# Altium footprint library LM7805.PcbLib: 1 footprints
Each footprint in its own frame and in the unit in brackets; x right, y up, seen from the top. Pads: shape width x height; smd on the part's side, far side on the other; paste and mask are expansions set on the pad; w line width, h text height; cw(c..) or ccw(c..) is an arc to the next point about the centre after c.
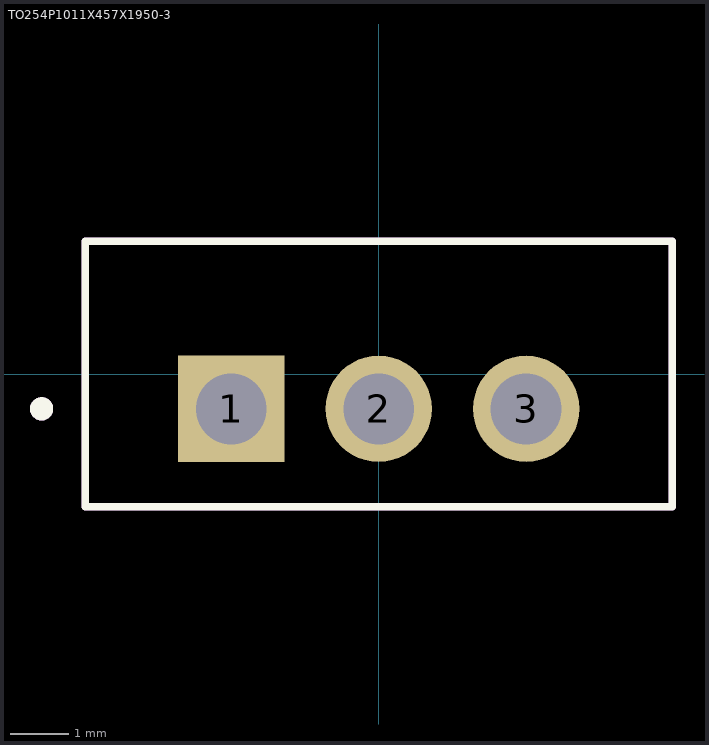
[diagram p0: the footprint, top view; thin cyan lines are the x and y axes]

## TO254P1011X457X1950-3 [mm]
pads (3):
  rect 1.83x1.83 / inner round 1.83 / far side rect 1.83x1.83 hole 1.22 mask+0.102: 1(-2.54,-0.6)
  round 1.83 hole 1.22 mask+0.102: 2(0,-0.6) 3(2.54,-0.6)
Top Overlay:
  circle w0.2: c-5.805,-0.6 r0.1
  lines w0.127: -5.055,-2.285 5.055,-2.285 5.055,2.285 -5.055,2.285 -5.055,-2.285
Assembly Top:
  circle w0.2: c-5.805,-0.6 r0.1
  lines w0.127: -5.055,-2.285 5.055,-2.285 5.055,2.285 -5.055,2.285 -5.055,-2.285
3D body "step_temp.STEP": height 19.5, standoff -9.6, extent -5.08,-2.285 5.08,2.285